# Altium footprint library ABM7.PcbLib: 1 footprints
Each footprint in its own frame and in the unit in brackets; x right, y up, seen from the top. Pads: shape width x height; smd on the part's side, far side on the other; paste and mask are expansions set on the pad; w line width, h text height; cw(c..) or ccw(c..) is an arc to the next point about the centre after c.
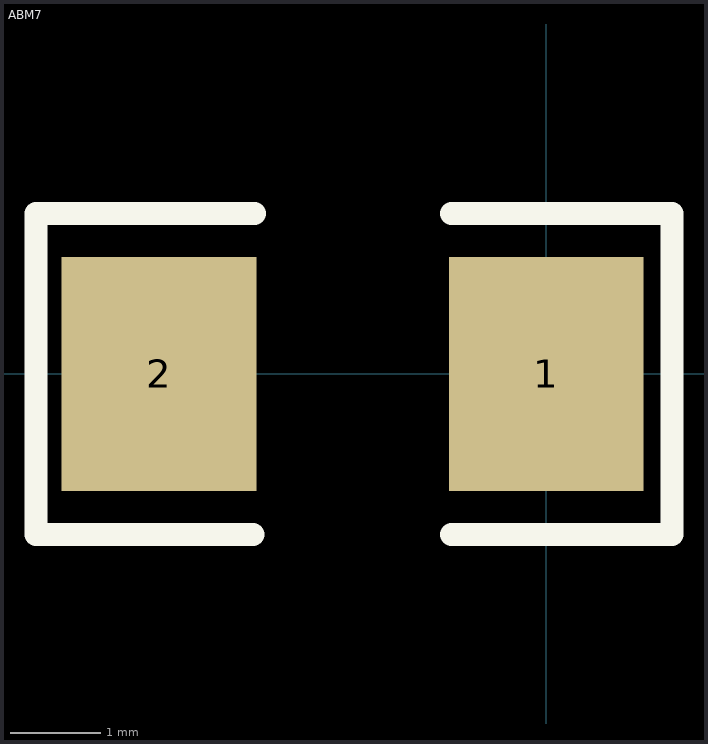
[diagram p0: the footprint, top view; thin cyan lines are the x and y axes]

## ABM7 [mil] "8.00 MHz Crystal"
height 55.12
pads (2):
  rect 85x102 smd: 1(0,0) 2(-169,0)
TopOverlay:
  lines w10: -128.04,-70 -222.81,-70 -222.81,70 -127.28,70 ; -41.3,-70 55,-70 55,70 -41.3,70
Mechanical4:
  text ".068" at 0,0 h1
3D body: height 55.55, standoff 0.4, extent -206.29,-72.84 37.8,72.83